# EAGLE library part DF13-6P-1.25? (library pixhawk2)
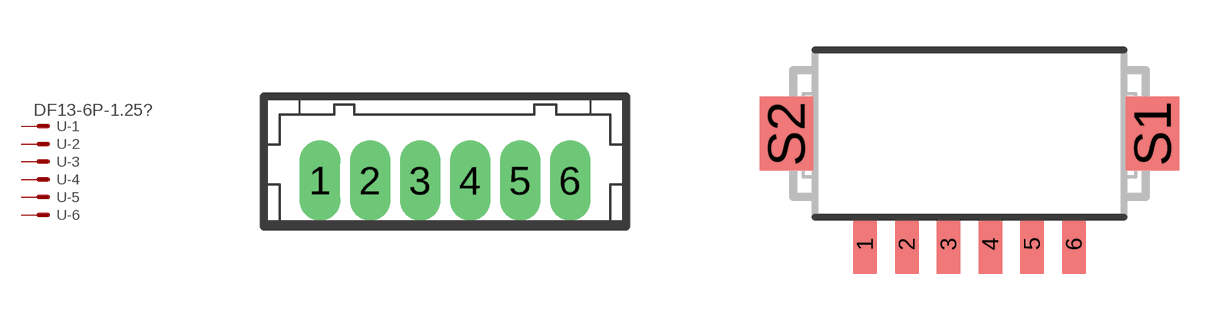
[diagram p45: symbol with the pads of DF13-6P-1.25DSA; footprints DF13-6P-1.25DSA, DF13A-6P-1.25H]

Designator prefix -; gates -1=MV -2=M -3=M -4=M -5=M -6=M

## DF13-6P-1.25DSA  [DF13-6P-1.25DSA]
1  -1:S  pas
2  -2:S  pas
3  -3:S  pas
4  -4:S  pas
5  -5:S  pas
6  -6:S  pas

## DF13-6P-1.25H  [DF13A-6P-1.25H]
Pads as for DF13-6P-1.25DSA

## Footprint DF13-6P-1.25DSA (pad centres in mm)
drill 0.5 pad 0.8 long: 1 -3.125,0; 2 -1.875,0; 3 -0.625,0; 4 0.625,0; 5 1.875,0; 6 3.125,0

## Footprint DF13A-6P-1.25H (pad centres in mm)
smd 0.7 x 1.8: 1 -3.125,-3.3; 2 -1.875,-3.3; 3 -0.625,-3.3; 4 0.625,-3.3; 5 1.875,-3.3; 6 3.125,-3.3
smd 1.6 x 2.2: S1 5.475,0; S2 -5.475,0